# Altium footprint library PCBlibary.PcbLib: 6 footprints
Each footprint in its own frame and in the unit in brackets; x right, y up, seen from the top. Pads: shape width x height; smd on the part's side, far side on the other; paste and mask are expansions set on the pad; w line width, h text height; cw(c..) or ccw(c..) is an arc to the next point about the centre after c.
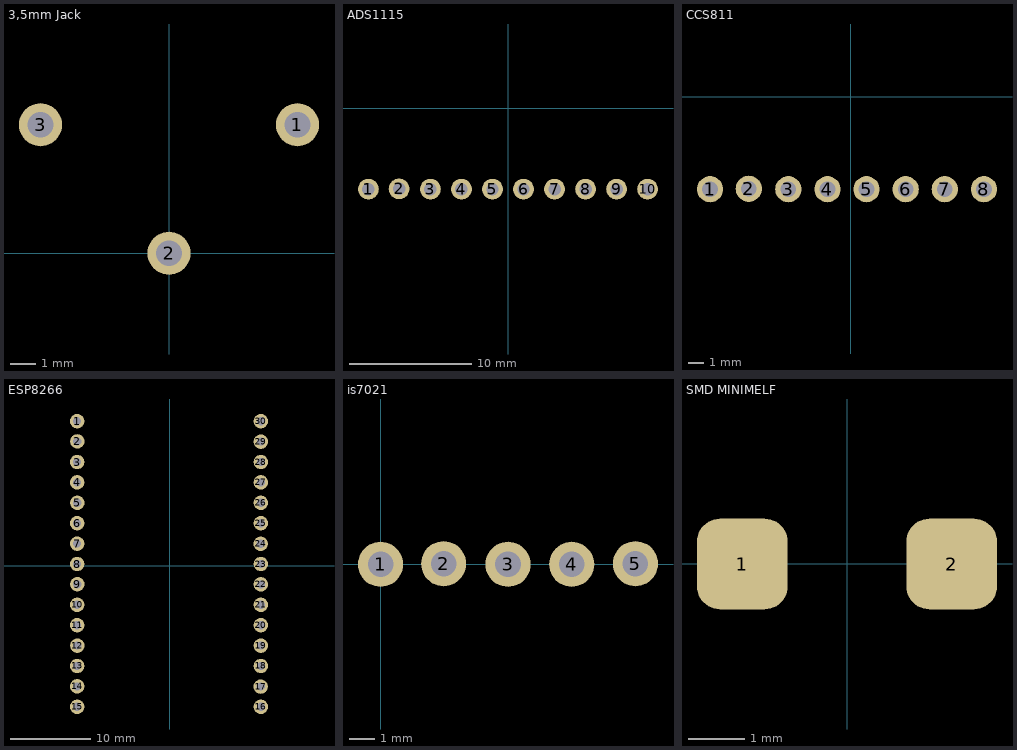
[diagram p0: the footprints below, top view; thin cyan lines are the x and y axes]

## 3,5mm Jack [mm]
pads (3):
  round 1.7 hole 1.02: 1(5.08,5.08) 2(0,0) 3(-5.08,5.08)
3D body: height 10, standoff 0, extent -7.5,-4.463 7.5,9.543
3D body: height 1, standoff 0, extent 0.025,-6.477 0.025,-6.477
3D body: height 8.49, standoff 1.51, extent -3.505,-4.717 3.505,-4.463

## ADS1115 [mm]
pads (10):
  round 1.7 hole 1.02: 1(-11.43,-6.604) 2(-8.915,-6.579) 3(-6.35,-6.604) 4(-3.81,-6.604) 5(-1.27,-6.604) 6(1.27,-6.604) 7(3.81,-6.604) 8(6.35,-6.604) 9(8.89,-6.604) 10(11.43,-6.604)
3D body "zl201-8_p2-54_l20-3_w2-54_h8-89.stp": height 8.64, standoff -3.3, extent -7.62,-7.874 12.7,-5.334
3D body "zl201-8_p2-54_l20-3_w2-54_h8-89.stp": height 8.64, standoff -3.3, extent -12.7,-7.874 7.62,-5.334
3D body "16Bit I2C ADC+PGA - ADS1115.stp": height 5.04, standoff 2.3, extent -13.97,-8.636 13.97,8.636

## CCS811 [mm]
pads (8):
  round 1.7 hole 1.02: 1(-9.119,-5.994) 2(-6.604,-5.969) 3(-4.039,-5.994) 4(-1.499,-5.994) 5(1.041,-5.994) 6(3.581,-5.994) 7(6.121,-5.994) 8(8.661,-5.994)
3D body "zl201-8_p2-54_l20-3_w2-54_h8-89.stp": height 8.64, standoff -3.3, extent -10.388,-7.264 9.932,-4.724
3D body "Air Quality Sensor CCS811.SLDPRT": height 4.69, standoff 2, extent -11.113,-9.017 11.113,9.017

## ESP8266 [mm]
pads (30):
  round 1.8 hole 1.02: 1(-11.506,17.983) 2(-11.481,15.469) 3(-11.506,12.903) 4(-11.506,10.363) 5(-11.481,7.823) 6(-11.506,5.283) 7(-11.506,2.743) 8(-11.506,0.203) 9(-11.481,-2.311) 10(-11.506,-4.877) 11(-11.506,-7.417) 12(-11.481,-9.957) 13(-11.506,-12.497) 14(-11.506,-15.037) 15(-11.506,-17.577) 16(11.379,-17.577) 17(11.354,-15.062) 18(11.379,-12.497) 19(11.379,-9.957) 20(11.379,-7.417) 21(11.379,-4.877) 22(11.379,-2.337) 23(11.379,0.203) 24(11.354,2.718) 25(11.379,5.283) 26(11.379,7.823) 27(11.379,10.363) 28(11.379,12.903) 29(11.379,15.443) 30(11.379,17.983)
3D body "e-Paper Esp8266.stp": height 8.76, standoff -6, extent -15.181,-25 14.859,24.095

## is7021 [mm]
pads (5):
  round 1.8 hole 1.02: 1(0,0) 2(2.515,0.025) 3(5.08,0) 4(7.62,0) 5(10.16,0.025)
3D body "zl201-5_p2-54_l12-7_w2-54_h8-89.stp": height 8.64, standoff -3.3, extent -1.27,-1.27 11.43,1.27
3D body: height 3.2, standoff 2.3, extent -1.27,-1.27 11.43,7.73

## SMD MINIMELF [mm]
pads (2):
  rrect50% 1.6x1.6 smd: 1(-1.85,0) 2(1.85,0)
3D body "MiniMelfDiode.stp": height 1.63, standoff 0.04, extent -1.85,-0.798 1.85,0.797